# EAGLE library part LM386N-4/NOPB (library LM386N-4_NOPB_thruhole)
Check availability <https://pricing.snapeda.com/parts/LM386N-4/NOPB/Texas%20Instruments/view-part?ref=eda>
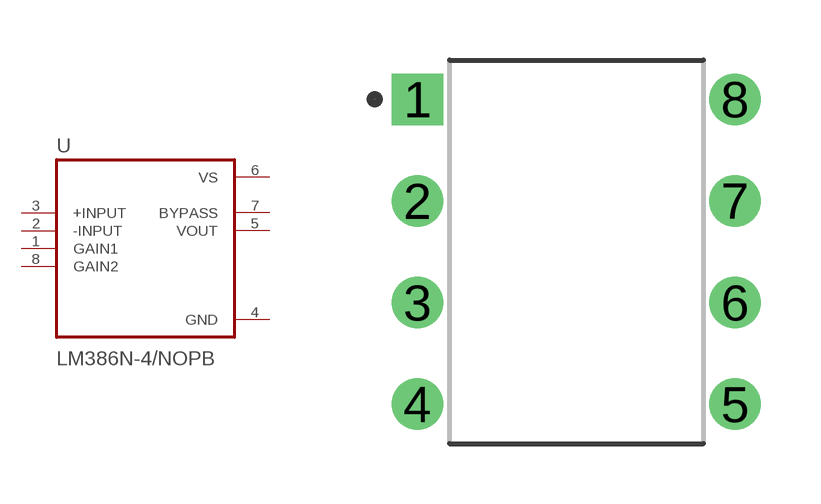
[diagram p0: symbol with the pads of DIP794W45P254L959H508Q8; footprint DIP794W45P254L959H508Q8]

Designator prefix U

## LM386N-4/NOPB (Availability: In Stock; Description: 700-mW, mono, 5- to 18-V, analog input Class-AB audio amplifier; MF: Texas Instruments; MP: LM386N-4/NOPB; Package: PDIP-8 Texas; Price: None; Purchase-URL: https://pricing.snapeda.com/search/part/LM386N-4/NOPB/?ref=eda)  [DIP794W45P254L959H508Q8]
1  GAIN1  in
2  -INPUT  in
3  +INPUT  in
4  GND  pwr
5  VOUT  out
6  VS  pwr
7  BYPASS  out
8  GAIN2  in

## Footprint DIP794W45P254L959H508Q8 (pad centres in mm)
drill 0.78 pad 1.13 square: 1 -3.97,3.81
drill 0.78 pad 1.13: 2 -3.97,1.27; 3 -3.97,-1.27; 4 -3.97,-3.81; 5 3.97,-3.81; 6 3.97,-1.27; 7 3.97,1.27; 8 3.97,3.81